# EAGLE library part TS3USB221E (library pimoroni)
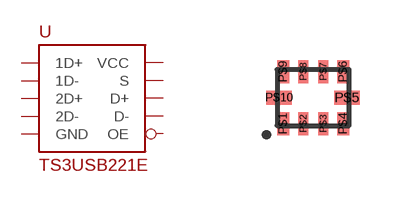
[diagram p13: symbol with the pads of UQFN10; footprint UQFN10]

Designator prefix -

## TS3USB221E  [UQFN10]
P$1  1D+
P$2  1D-
P$3  2D+
P$4  2D-
P$5  GND
P$6  OE
P$7  D-
P$8  D+
P$9  S
P$10  VCC

## Footprint UQFN10 (pad centres in mm)
smd 0.3 x 0.58: P$1 -0.785,-0.685; P$4 0.715,-0.685; P$6 0.715,0.615; P$9 -0.785,0.615
smd 0.25 x 0.58: P$2 -0.285,-0.685; P$3 0.215,-0.685; P$7 0.215,0.615; P$8 -0.285,0.615
smd 0.63 x 0.35: P$5 0.815,-0.035; P$10 -0.885,-0.035